# Altium footprint library Panasonic-EEEFT_EEEH.PCBLIB: 7 footprints
Each footprint in its own frame and in the unit in brackets; x right, y up, seen from the top. Pads: shape width x height; smd on the part's side, far side on the other; paste and mask are expansions set on the pad; w line width, h text height; cw(c..) or ccw(c..) is an arc to the next point about the centre after c.
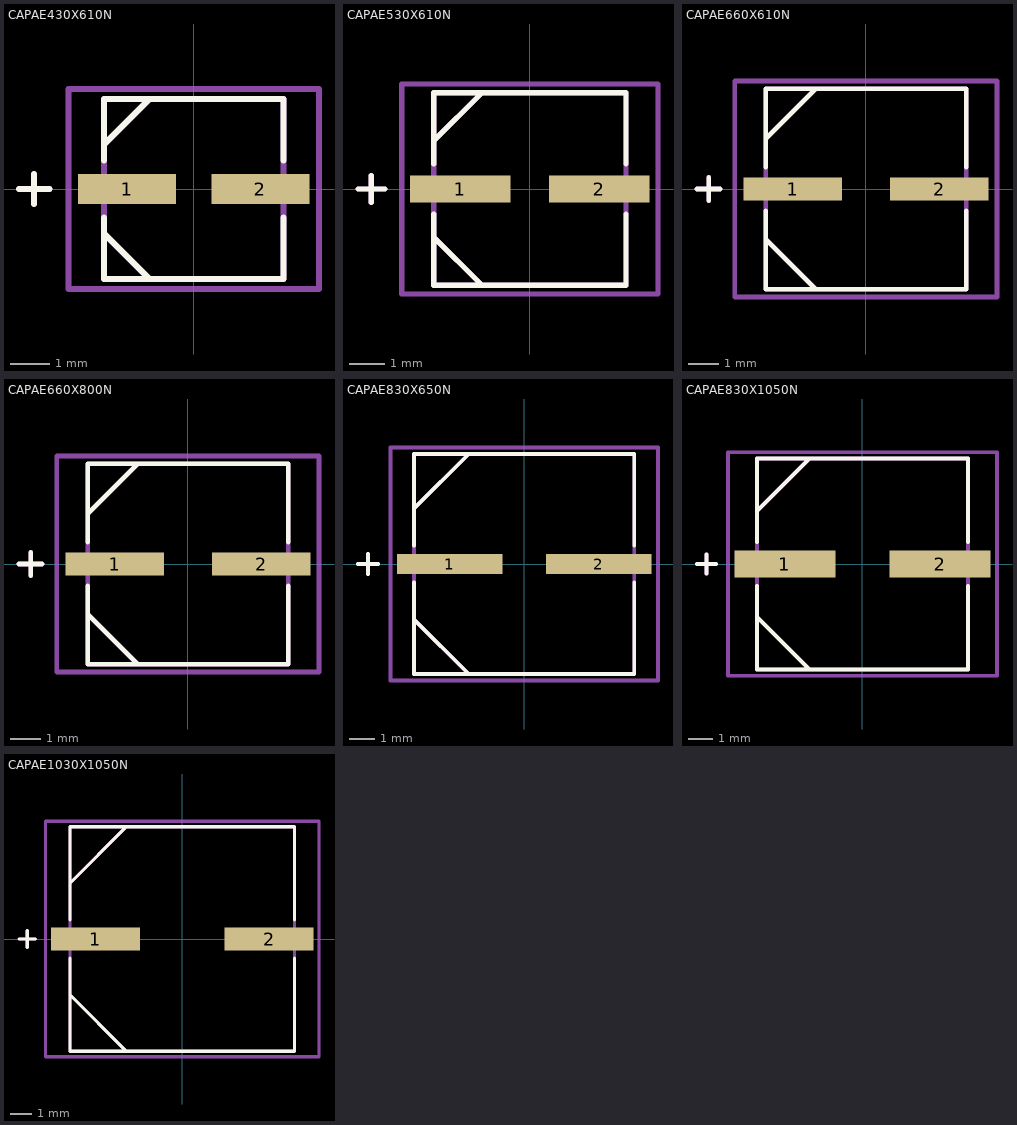
[diagram p0: the footprints below, top view; thin cyan lines are the x and y axes]

## CAPAE430X610N [mil]
pads (2):
  rect 97x30 smd: 1(-66,0) 2(66,0)
Top Overlay:
  lines w6: -173,0 -143,0 ; -158,-15 -158,15 ; -89,-28 -89,-44 ; -89,28 -89,89 89,89 89,28 ; -89,44 -44,89 ; -44,-89 -89,-44 ; 89,-28 89,-89 -89,-89 -89,-44
Mechanical 16:
  lines w6: -173,0 -143,0 ; -158,-15 -158,15 ; -89,-44 -44,-89 ; -89,44 -44,89 ; -89,-89 89,-89 89,89 -89,89 -89,-89
Mech37:
  lines w6: -124,-99 124,-99 124,99 -124,99 -124,-99

## CAPAE530X610N [mil]
pads (2):
  rect 113x30 smd: 1(-78,0) 2(78,0)
Top Overlay:
  lines w6: -193,0 -163,0 ; -178,-15 -178,15 ; -108,-28 -108,-54 ; -108,28 -108,108 108,108 108,28 ; -108,54 -54,108 ; -54,-108 -108,-54 ; 108,-28 108,-108 -108,-108 -108,-54
Mechanical 16:
  lines w6: -193,0 -163,0 ; -178,-15 -178,15 ; -108,-54 -54,-108 ; -108,54 -54,108 ; -108,-108 108,-108 108,108 -108,108 -108,-108
Mech37:
  lines w6: -144,-118 144,-118 144,118 -144,118 -144,-118

## CAPAE660X610N [mil]
pads (2):
  rect 128x30 smd: 1(-95,0) 2(95,0)
Top Overlay:
  lines w6: -219,0 -189,0 ; -204,-15 -204,15 ; -130,-28 -130,-65 ; -130,28 -130,130 130,130 130,28 ; -130,65 -65,130 ; -65,-130 -130,-65 ; 130,-28 130,-130 -130,-130 -130,-65
Mechanical 16:
  lines w6: -219,0 -189,0 ; -204,-15 -204,15 ; -130,-65 -65,-130 ; -130,65 -65,130 ; -130,-130 130,-130 130,130 -130,130 -130,-130
Mech37:
  lines w6: -170,-140 170,-140 170,140 -170,140 -170,-140

## CAPAE660X800N [mil]
pads (2):
  rect 128x30 smd: 1(-95,0) 2(95,0)
Top Overlay:
  lines w6: -219,0 -189,0 ; -204,-15 -204,15 ; -130,-28 -130,-65 ; -130,28 -130,130 130,130 130,28 ; -130,65 -65,130 ; -65,-130 -130,-65 ; 130,-28 130,-130 -130,-130 -130,-65
Mechanical 16:
  lines w6: -219,0 -189,0 ; -204,-15 -204,15 ; -130,-65 -65,-130 ; -130,65 -65,130 ; -130,-130 130,-130 130,130 -130,130 -130,-130
Mech37:
  lines w6: -170,-140 170,-140 170,140 -170,140 -170,-140

## CAPAE830X650N [mil]
pads (2):
  rect 160x30 smd: 1(-113,0) 2(113,0)
Top Overlay:
  lines w6: -252,0 -222,0 ; -237,-15 -237,15 ; -167,-28 -167,-84 ; -167,28 -167,167 167,167 167,28 ; -167,84 -84,167 ; -84,-167 -167,-84 ; 167,-28 167,-167 -167,-167 -167,-84
Mechanical 16:
  lines w6: -252,0 -222,0 ; -237,-15 -237,15 ; -167,-84 -84,-167 ; -167,84 -84,167 ; -167,-167 167,-167 167,167 -167,167 -167,-167
Mech37:
  lines w6: -203,-177 203,-177 203,177 -203,177 -203,-177

## CAPAE830X1050N [mil]
pads (2):
  rect 160x43 smd: 1(-123,0) 2(123,0)
Top Overlay:
  lines w6: -262,0 -232,0 ; -247,-15 -247,15 ; -167,-35 -167,-84 ; -167,35 -167,167 167,167 167,35 ; -167,84 -84,167 ; -84,-167 -167,-84 ; 167,-35 167,-167 -167,-167 -167,-84
Mechanical 16:
  lines w6: -262,0 -232,0 ; -247,-15 -247,15 ; -167,-84 -84,-167 ; -167,84 -84,167 ; -167,-167 167,-167 167,167 -167,167 -167,-167
Mech37:
  lines w6: -213,-177 213,-177 213,177 -213,177 -213,-177

## CAPAE1030X1050N [mil]
pads (2):
  rect 164x43 smd: 1(-160,0) 2(160,0)
Top Overlay:
  lines w6: -301,0 -271,0 ; -286,-15 -286,15 ; -207,-35 -207,-103 ; -207,35 -207,207 207,207 207,35 ; -207,103 -103,207 ; -103,-207 -207,-103 ; 207,-35 207,-207 -207,-207 -207,-103
Mechanical 16:
  lines w6: -301,0 -271,0 ; -286,-15 -286,15 ; -207,-103 -103,-207 ; -207,103 -103,207 ; -207,-207 207,-207 207,207 -207,207 -207,-207
Mech37:
  lines w6: -252,-217 252,-217 252,217 -252,217 -252,-217